# EAGLE library part MNR18E0AP (library _PWM_driver)
Resistor Array, 8, isolated
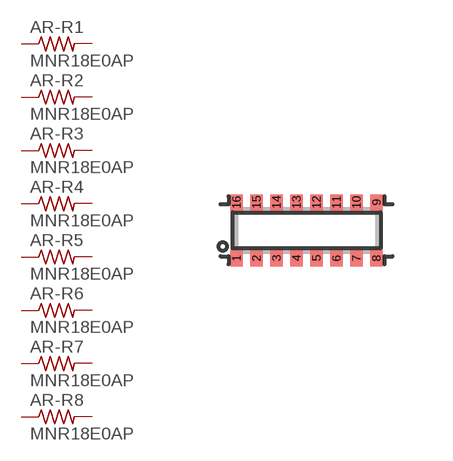
[diagram p8: symbol with the pads of R0603X8-CONVEX; footprint R0603X8-CONVEX]

Designator prefix AR; gates -R1=RESISTOR -R2=RESISTOR -R3=RESISTOR -R4=RESISTOR -R5=RESISTOR -R6=RESISTOR -R7=RESISTOR -R8=RESISTOR

## MNR18E0AP  [R0603X8-CONVEX]
1  -R1:1  pas
2  -R2:1  pas
3  -R3:1  pas
4  -R4:1  pas
5  -R5:1  pas
6  -R6:1  pas
7  -R7:1  pas
8  -R8:1  pas
9  -R8:2  pas
10  -R7:2  pas
11  -R6:2  pas
12  -R5:2  pas
13  -R4:2  pas
14  -R3:2  pas
15  -R2:2  pas
16  -R1:2  pas

## Footprint R0603X8-CONVEX (pad centres in mm)
smd 0.31 x 0.4: 1 -1.75,-0.7; 2 -1.25,-0.7; 3 -0.75,-0.7; 4 -0.25,-0.7; 5 0.25,-0.7; 6 0.75,-0.7; 7 1.25,-0.7; 8 1.75,-0.7; 9 1.75,0.7; 10 1.25,0.7; 11 0.75,0.7; 12 0.25,0.7; 13 -0.25,0.7; 14 -0.75,0.7; 15 -1.25,0.7; 16 -1.75,0.7